# Altium footprint library LEDRGBW-8Pin_INV.PcbLib: 1 footprints
Each footprint in its own frame and in the unit in brackets; x right, y up, seen from the top. Pads: shape width x height; smd on the part's side, far side on the other; paste and mask are expansions set on the pad; w line width, h text height; cw(c..) or ccw(c..) is an arc to the next point about the centre after c.
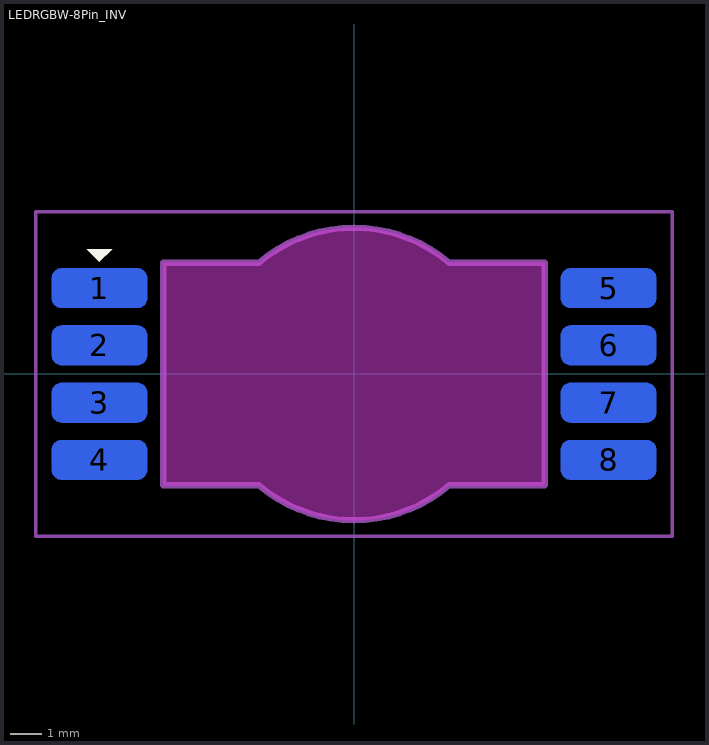
[diagram p0: the footprint, top view; thin cyan lines are the x and y axes]

## LEDRGBW-8Pin_INV [mm]
pads (8):
  rrect50% 3x1.25 smd far side: 1(-8,2.7) 2(-8,0.9) 3(-8,-0.9) 4(-8,-2.7) 5(8,2.7) 6(8,0.9) 7(8,-0.9) 8(8,-2.7)
Top Overlay:
  region: -8.4,3.925 -7.6,3.925 -8,3.525
Keep-Out Layer:
  board cut-out: -6,-3.5 -6,3.5 -2.985,3.5 -2.779,3.676 -2.328,3.977 -1.845,4.223 -1.336,4.41 -0.809,4.536 -0.271,4.6 0.271,4.6 0.809,4.536 1.336,4.41 1.845,4.223 2.328,3.977 2.779,3.676 2.985,3.5 6,3.5 6,-3.5 2.985,-3.5 2.779,-3.676 2.328,-3.977 1.845,-4.223 1.336,-4.41 0.809,-4.536 0.271,-4.6 -0.271,-4.6 -0.809,-4.536 -1.336,-4.41 -1.845,-4.223 -2.328,-3.977 -2.779,-3.676 -2.985,-3.5
Mechanical 1:
  lines w0.2: -6,-3.5 -2.985,-3.5 ccw(c0,0) 2.985,-3.5 6,-3.5 6,3.5 2.985,3.5 ccw(c0,0) -2.985,3.5 -6,3.5 -6,-3.5
Top Courtyard:
  lines w0.1: -10,-5.1 -10,5.1 10,5.1 10,-5.1 -10,-5.1
3D body "User Library-RGBW-4W.STEP": height 0.3, standoff -4.75, extent -7.228,-4.525 7.372,4.464